# EAGLE library part LTC3612 (library PowerProducts)
3A, 4MHz Monolithic Synchronous Step-Down DC/DC Converter
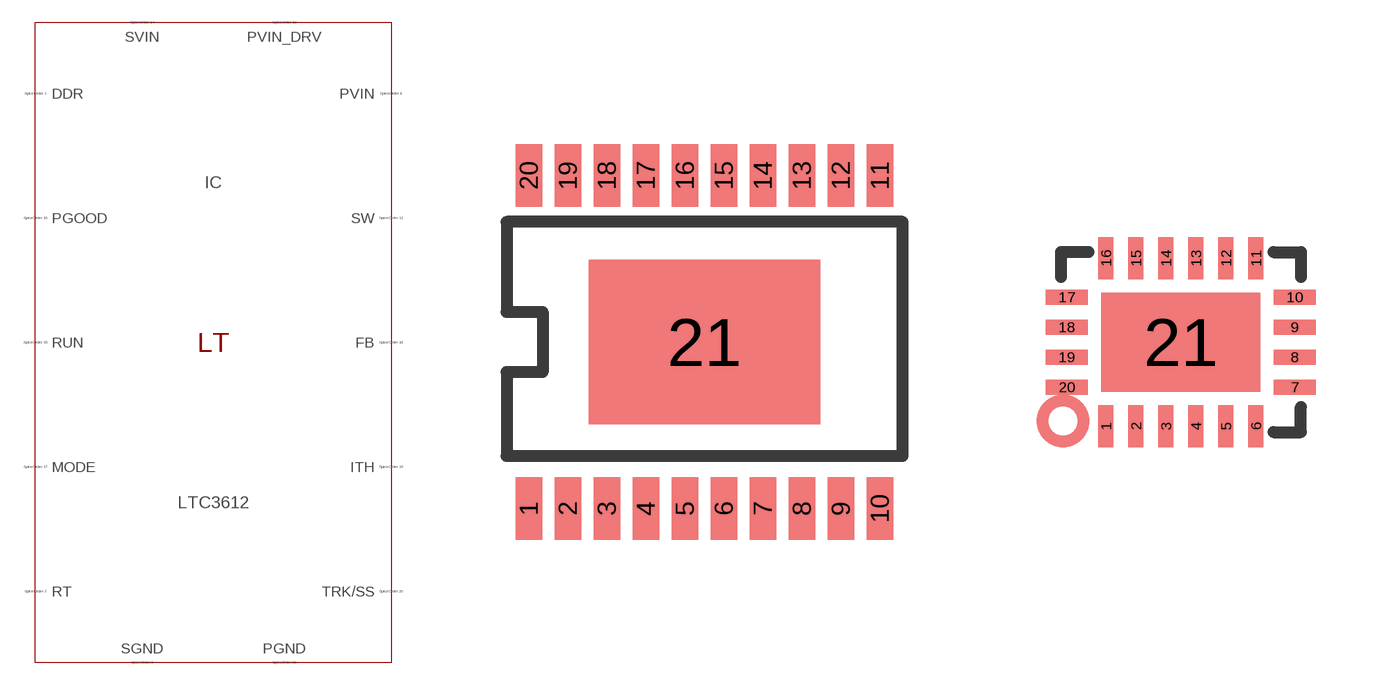
[diagram p264: symbol with the pads of TSSOP20CB(FE); footprints TSSOP20CB(FE), QFN20(UDC)]

Designator prefix IC

## LTC3612 (SPICEMODEL: LTC3612.sub; SPICEPREFIX: X; VALUE2: LTC3612)  [TSSOP20CB(FE)]
1  SVIN  pas
2  RUN  pas
3  PGOOD  pas
4  MODE  pas
5  FB  pas
6  ITH  pas
7  TRK/SS  pas
8  DDR  pas
9  RT  pas
10  SGND  pas
12  SW  pas
14  SW  pas
15  PVIN  pas
16  PVIN  pas
17  SW  pas
19  SW  pas
20  PVIN_DRV  pas
21  PGND  pas

## LTC3612UDC (SPICEMODEL: LTC3612.sub; SPICEPREFIX: X; VALUE2: LTC3612)  [QFN20(UDC)]
1  DDR  pas
2  RT  pas
3  SGND  pas
5  SW  pas
6  SW  pas
8  PVIN  pas
9  PVIN  pas
11  SW  pas
12  SW  pas
13  PVIN_DRV  pas
14  SVIN  pas
15  RUN  pas
16  PGOOD  pas
17  MODE  pas
18  FB  pas
19  ITH  pas
20  TRK/SS  pas
21  PGND  pas

## Footprint TSSOP20CB(FE) (pad centres in mm)
Package generated from: TSSOP20CB(FE).asc (!PADS-POWERPCB-V5.0-BASIC! DESIGN DATABASE ASCII FILE 1.0) with :import-pads-powerpcb-v5.ulp Version 1.0.1 at 04.10.2012 14:11:40
smd 0.66 x 1.575: 1 -4.388,-4.162; 2 -3.413,-4.162; 3 -2.438,-4.162; 4 -1.462,-4.162; 5 -0.487,-4.162; 6 0.487,-4.162; 7 1.462,-4.162; 8 2.438,-4.162; 9 3.413,-4.162; 10 4.388,-4.162; 11 4.388,4.162; 12 3.413,4.162; 13 2.438,4.162; 14 1.462,4.162; 15 0.487,4.162; 16 -0.487,4.162; 17 -1.462,4.162; 18 -2.438,4.162; 19 -3.413,4.162; 20 -4.388,4.162
smd 5.79 x 4.11: 21 0,0

## Footprint QFN20(UDC) (pad centres in mm)
Package generated from: QFN20(UDC).asc (!PADS-POWERPCB-V9.3-BASIC! DESIGN DATABASE ASCII FILE 1.0) with :import-pads-powerpcb-v5.ulp Version 1.0.1 at 04.10.2012 14:11:23
smd 0.375 x 1.05: 1 -1.875,-2.1; 2 -1.125,-2.1; 3 -0.375,-2.1; 4 0.375,-2.1; 5 1.125,-2.1; 6 1.875,-2.1; 11 1.875,2.1; 12 1.125,2.1; 13 0.375,2.1; 14 -0.375,2.1; 15 -1.125,2.1; 16 -1.875,2.1
smd 1.05 x 0.375: 7 2.85,-1.125; 8 2.85,-0.375; 9 2.85,0.375; 10 2.85,1.125; 17 -2.85,1.125; 18 -2.85,0.375; 19 -2.85,-0.375; 20 -2.85,-1.125
smd 3.975 x 2.475: 21 0,0